# Altium footprint library PCB1.2.PcbLib: 34 footprints (part 1 of 3)
Each footprint in its own frame and in the unit in brackets; x right, y up, seen from the top. Pads: shape width x height; smd on the part's side, far side on the other; paste and mask are expansions set on the pad; w line width, h text height; cw(c..) or ccw(c..) is an arc to the next point about the centre after c.
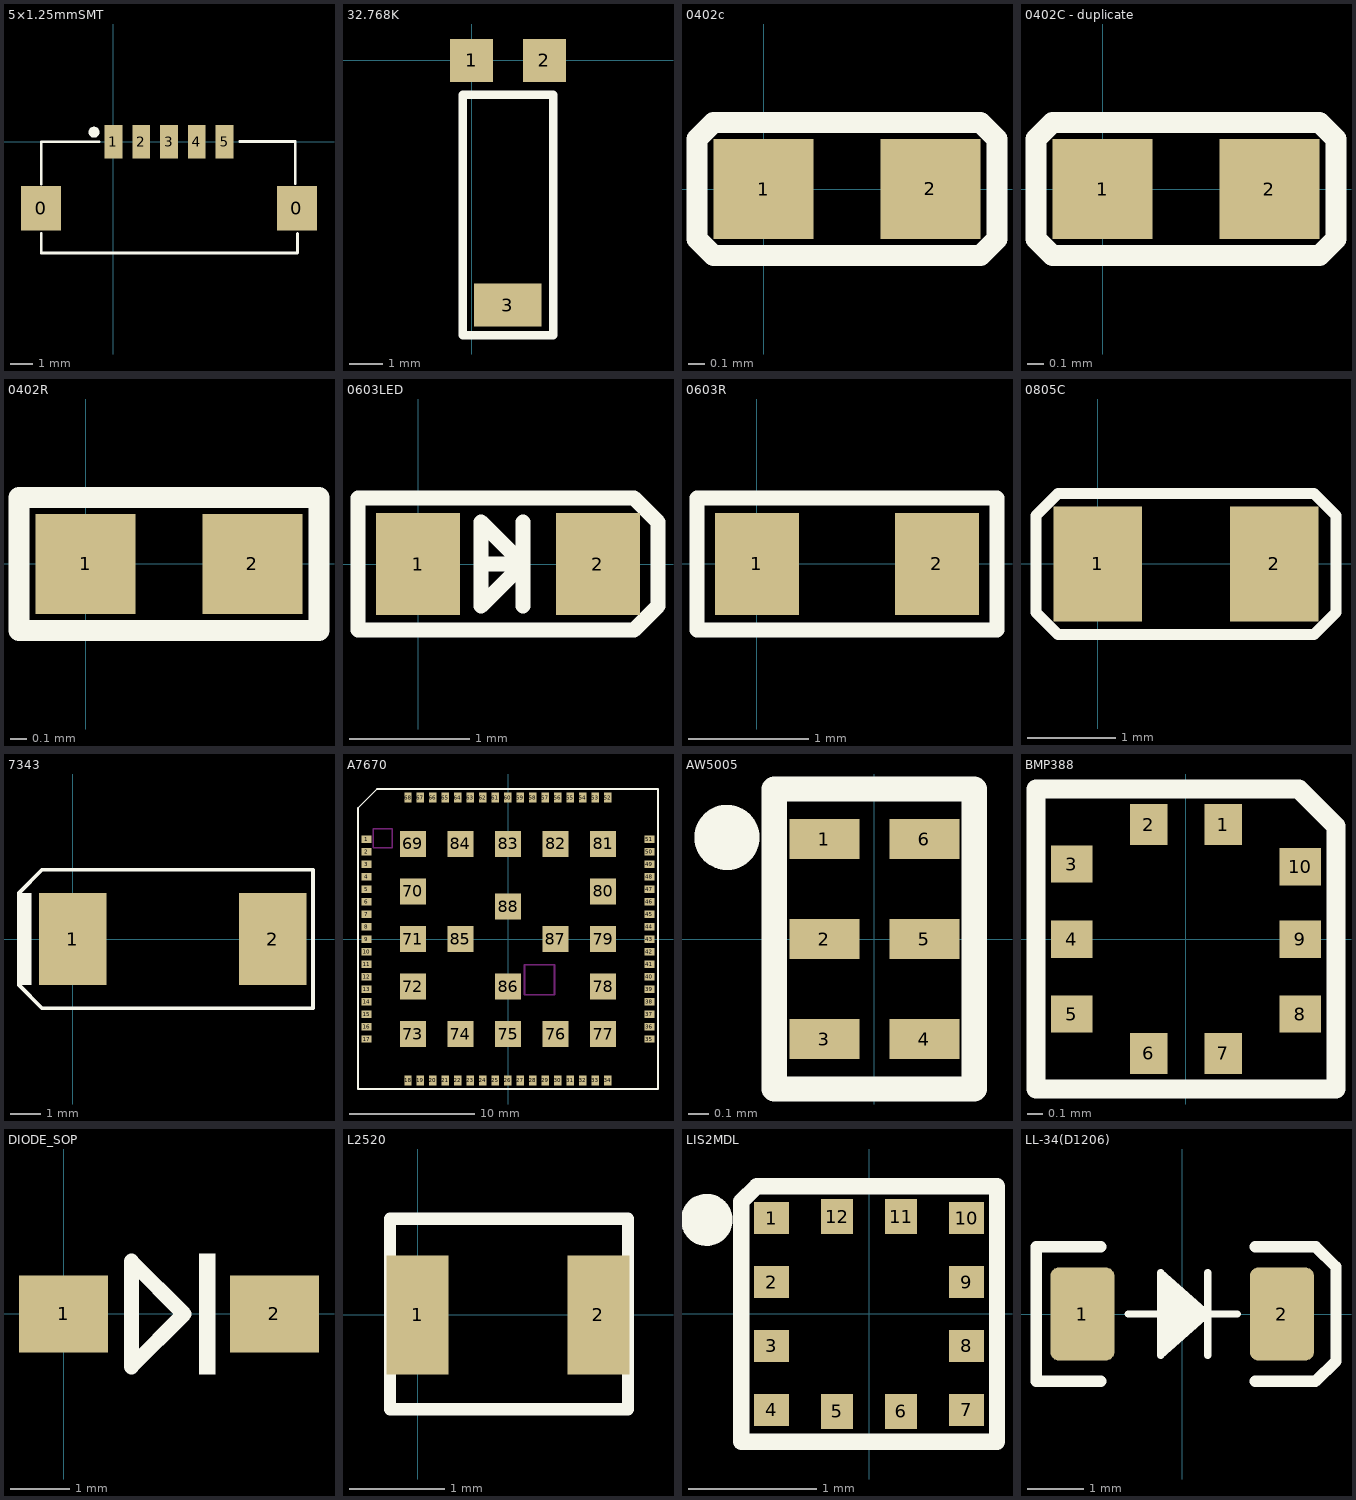
[diagram p0: the footprints below, top view; thin cyan lines are the x and y axes]

## 5×1.25mmSMT [mm]
pads (8):
  rect 1.8x2 smd: 0(-3.25,-3) 0(8.25,-3)
  rect 0.8x1.5 smd: 1(0,0) 2(1.25,0) 3(2.5,0) 4(3.75,0) 5(5,0)
  round 0.5 on Top Overlay: ""(-0.875,0.432)
Top Overlay:
  lines w0.127: -3.25,-4.13 -3.25,-5 8.28,-5 8.28,-4.13 ; -3.25,-1.895 -3.25,0 -0.65,0 ; 5.681,0.015 8.179,0.015 8.179,-1.88

## 32.768K [mm]
height 1.4
pads (3):
  rect 1.27x1.27 smd: 1(0,0) 2(2.159,0)
  rect 2x1.27 smd: 3(1.07,-7.239)
Top Overlay:
  lines w0.254: -0.254,-8.128 2.413,-8.128 2.413,-1.016 -0.254,-1.016 -0.254,-8.128

## 0402c [mm]
height 1.18
pads (2):
  rect 0.6x0.6 smd: 1(0,0) 2(1,0)
Top Overlay:
  lines w0.127: -0.4,-0.3 -0.4,0.3 ; -0.4,-0.3 -0.4,-0.3 ; -0.4,-0.3 -0.3,-0.4 1.3,-0.4 ; -0.4,0.3 -0.4,0.3 ; -0.4,0.3 -0.3,0.4 1.3,0.4 1.4,0.3 ; 1.3,-0.4 1.3,-0.4 ; 1.3,-0.4 1.4,-0.3 ; 1.4,-0.3 1.4,0.3 ; 1.4,-0.3 1.4,-0.3 ; 1.4,0.3 1.4,0.3

## 0402C - duplicate [mm]
pads (2):
  rect 0.6x0.6 smd: 1(0,0) 2(1,0)
Top Overlay:
  lines w0.127: -0.4,-0.3 -0.4,0.3 ; -0.4,-0.3 -0.4,-0.3 ; -0.4,-0.3 -0.3,-0.4 1.3,-0.4 ; -0.4,0.3 -0.4,0.3 ; -0.4,0.3 -0.3,0.4 1.3,0.4 1.4,0.3 1.4,-0.3 ; 1.3,-0.4 1.3,-0.4 ; 1.3,-0.4 1.4,-0.3 ; 1.4,-0.3 1.4,-0.3

## 0402R [mm]
height 1.18
pads (2):
  rect 0.6x0.6 smd: 1(0,0) 2(1,0)
Top Overlay:
  lines w0.127: -0.4,-0.4 -0.4,0.4 1.4,0.4 1.4,-0.4 -0.4,-0.4

## 0603LED [mm]
height 1.18
pads (2):
  rect 0.7x0.85 smd: 1(0,0) 2(1.5,0)
Top Overlay:
  lines w0.127: 0.525,0 0.875,0 ; 0.875,-0.35 0.875,0.35 ; 0.875,0 0.525,-0.35 0.525,0.35 0.875,0 ; -0.5,-0.55 1.8,-0.55 2,-0.35 2,0.35 1.8,0.55 -0.5,0.55 -0.5,-0.55

## 0603R [mm]
height 1.18
pads (2):
  rect 0.7x0.85 smd: 1(0,0) 2(1.5,0)
Top Overlay:
  lines w0.127: -0.5,-0.55 2,-0.55 2,0.55 -0.5,0.55 -0.5,-0.55

## 0805C [mm]
height 1.18
pads (2):
  rect 1x1.3 smd: 1(0,0) 2(2,0)
Top Overlay:
  lines w0.127: 2.45,-0.8 -0.45,-0.8 -0.7,-0.55 -0.7,0.55 -0.45,0.8 2.45,0.8 2.7,0.55 2.7,-0.55 2.45,-0.8 ; 2.45,-0.8 2.45,-0.8

## 7343 [mm]
height 1.18
pads (2):
  rect 2.2x3 smd: 1(0,0) 2(6.5,0)
Top Overlay:
  rectangle: -1.741,-1.5 -1.341,1.5
  lines w0.127: -1.75,-1.5 -1,-2.25 7.8,-2.25 7.8,2.25 -1,2.25 -1.75,1.5 -1.75,-1.5

## A7670 [mm]
pads (88):
  rect 0.8x0.6 smd: 1(-11.3,8) 2(-11.3,7) 3(-11.3,6) 4(-11.3,5) 5(-11.3,4) 6(-11.3,3) 7(-11.3,2) 8(-11.3,1) 9(-11.3,0) 10(-11.3,-1) 11(-11.3,-2) 12(-11.3,-3) 13(-11.3,-4) 14(-11.3,-5) 15(-11.3,-6) 16(-11.3,-7) 17(-11.3,-8) 35(11.3,-8) 36(11.3,-7) 37(11.3,-6) 38(11.3,-5) 39(11.3,-4) 40(11.3,-3) 41(11.3,-2) 42(11.3,-1) 43(11.3,0) 44(11.3,1) 45(11.3,2) 46(11.3,3) 47(11.3,4) 48(11.3,5) 49(11.303,6) 50(11.3,7) 51(11.3,8)
  rect 0.6x0.8 smd: 18(-8,-11.3) 19(-7,-11.3) 20(-6,-11.3) 21(-5,-11.3) 22(-4,-11.3) 23(-3,-11.3) 24(-2,-11.3) 25(-1,-11.3) 26(0,-11.3) 27(1,-11.3) 28(2,-11.3) 29(3,-11.3) 30(4,-11.3) 31(5,-11.3) 32(6,-11.3) 33(7,-11.3) 34(8,-11.3) 52(8,11.3) 53(7,11.3) 54(6,11.3) 55(5,11.3) 56(4,11.3) 57(3,11.3) 58(2,11.3) 59(1,11.3) 60(0,11.3) 61(-1,11.3) 62(-2,11.3) 63(-3,11.3) 64(-4,11.3) 65(-5,11.3) 66(-6,11.3) 67(-7,11.3) 68(-8,11.3)
  rect 2.1x2.1 smd: 69(-7.6,7.6) 70(-7.6,3.8) 71(-7.6,0) 72(-7.6,-3.8) 73(-7.6,-7.6) 74(-3.8,-7.6) 75(0,-7.6) 76(3.8,-7.6) 77(7.6,-7.6) 78(7.6,-3.8) 79(7.6,0) 80(7.6,3.8) 81(7.6,7.6) 82(3.8,7.6) 83(0,7.6) 84(-3.8,7.6) 85(-3.8,0) 86(0,-3.8) 87(3.8,0) 88(0,2.591)
Top Overlay:
  lines w0.127: -12,-12 -12,10.479 -10.479,12 12,12 12,-12 -12,-12
Keep-Out Layer:
  lines w0.127: 1.321,-2.07 1.321,-4.47 3.721,-4.47 3.721,-2.07 ; 1.321,-2.045 3.721,-2.045 ; -10.77,7.314 -10.77,8.814 -9.27,8.814 -9.27,7.314 -10.77,7.314

## AW5005 [mm]
height 1.18
pads (6):
  rect 0.35x0.2 smd: 1(-0.25,0.5) 2(-0.25,0) 3(-0.25,-0.5) 4(0.25,-0.5) 5(0.25,0) 6(0.25,0.5)
Top Overlay:
  circle w0.254: c-0.737,0.508 r0.036
  lines w0.127: -0.5,-0.75 -0.5,0.75 0.5,0.75 0.5,-0.75 -0.5,-0.75

## BMP388 [mm]
height 1.18
pads (10):
  rect 0.25x0.275 smd: 1(0.25,0.763) 2(-0.25,0.763) 6(-0.25,-0.763) 7(0.25,-0.763)
  rect 0.275x0.25 smd: 3(-0.762,0.5) 4(-0.762,0) 5(-0.762,-0.5) 8(0.763,-0.5) 9(0.763,0) 10(0.763,0.483)
Top Overlay:
  lines w0.127: -1,-1 1,-1 1,0.753 0.753,1 -1,1 -1,-1

## DIODE_SOP [mm]
height 1.18
pads (2):
  rect 1.5x1.3 smd: 1(0,0) 2(3.556,0)
Top Overlay:
  rectangle: 2.286,-1.016 2.559,1.016
  lines w0.254: 1.143,-0.889 2.032,0 1.143,0.889 1.143,-0.889

## L2520 [mm]
pads (2):
  rect 0.65x1.25 smd: 1(0,0) 2(1.9,0)
Top Overlay:
  lines w0.127: -0.29,-0.991 -0.29,1.009 2.21,1.009 2.21,-0.991 -0.29,-0.991

## LIS2MDL [mm]
height 1.18
pads (12):
  rect 0.275x0.25 smd: 1(-0.763,0.75) 2(-0.763,0.25) 3(-0.763,-0.25) 4(-0.763,-0.75) 7(0.763,-0.75) 8(0.763,-0.25) 9(0.763,0.25) 10(0.763,0.75)
  rect 0.25x0.275 smd: 5(-0.25,-0.763) 6(0.25,-0.763) 11(0.25,0.762) 12(-0.25,0.762)
Top Overlay:
  circle w0.254: c-1.27,0.737 r0.076
  lines w0.127: -1,-1 1,-1 1,1 -0.88,1 -1,0.88 -1,-1

## LL-34(D1206) [mil]
height 46.46
pads (2):
  rrect25% 45x65 smd: 1(-70,0) 2(70,0)
Top Overlay:
  region: 11.99,7 6.99,7 6.99,-8 11.99,-8
  region: 6.99,12 0.99,12 0.99,-12 6.99,-12
  region: 1,18.01 -6,18.01 -6,-17.99 1,-17.99
  region: -6.01,24 -14.01,24 -14.01,-24 -6.01,-24
  lines w5: -38,0 39,0 ; 18,-29 18,0 ; 18,29 18,0 ; 18,0 -15,-29 -15,0 -15,29 18,0
  lines w8: -57.06,-47.24 -102.34,-47.24 -102.34,47.24 -57.06,47.24 ; 51.21,-47.24 93.53,-47.24 108,-33.21 108,33.06 93.67,47.24 51.21,47.24
3D body: height 56.1, standoff -0.98, extent -69.9,-27.54 67.9,29.54